# Altium schematic symbol library Mosfets.SchLib: 7 symbols
Pins are listed as number, name and electrical type; pins without a type are passive.

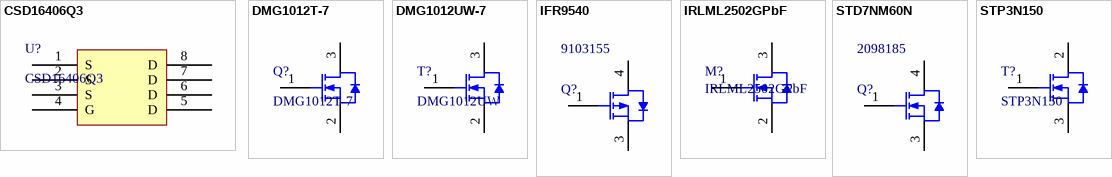
[diagram p0: symbols CSD16406Q3 to STP3N150]

## CSD16406Q3
designator U?
N-Channel NexFET™ Power MOSFET; Supplier 1: Farnell; Supplier Part Number 1: 1710768
footprint CSD16406Q3 (N-Channel NexFET™ Power MOSFET)
pins: 1 S, 2 S, 3 S, 4 G, 5 D, 6 D, 7 D, 8 D

## DMG1012T-7
designator Q?
MOSFET  N Channel; Supplier 1: Farnell; Supplier Part Number 1: 2543524
footprint DMG1012T-7 (SOT523 package)
pins: 1 G "gate", 2 S "source", 3 D "drain"

## DMG1012UW-7
designator T?, comment DMG1012UW
mosfet N chan enhancement-vds max 20v-id=1a; Supplier 1: Digi-Key; Supplier 2: Mouser; Supplier 3: RSComponents; Supplier Part Number 1: DMG1012UW-7DIDKR-ND; Supplier Part Number 2: 621-DMG1012UW-7; Supplier Part Number 3: 751-4073
footprint SOT65P255X100-3N (SOT323, 3-Leads, Body 2.00x2.55mm, Pitch 0.65mm, IPC Medium Density)
pins: 1 G "gate", 2 S "source", 3 D "drain"

## IFR9540
designator Q?  Supplier Part Number 1: 9103155
Pch; Supplier 1: Farnell
footprint D2-pak
pins: 1 G "gate", 3 S "drain", 4 D "source"

## IRLML2502GPbF
designator M?
Mosfet general purpose Vds 20V vgs 4.5 Id 3.4; Supplier 1: Farnell; Supplier Part Number 1: 2726007; Supplier 2: RS Components; Supplier Part Number 2: 9075176P
footprint SOT23127P600-8N
pins: 1 G "gate", 2 S "drain", 3 D "source"

## STD7NM60N
designator Q?  Supplier Part Number 1: 2098185
Nch; Supplier 1: Farnell
footprint D2-pak
pins: 1 G "gate", 3 S "source", 4 D "drain"

## STP3N150
designator T?
Supplier 1: Farnell; Supplier Part Number 1: 1456344
footprint STP3N150 (TO-220)
pins: 1 G "gate", 2 D "drain", 3 S "source"